# EAGLE library part KSZ9031RNX (library KSZ9031RNX)
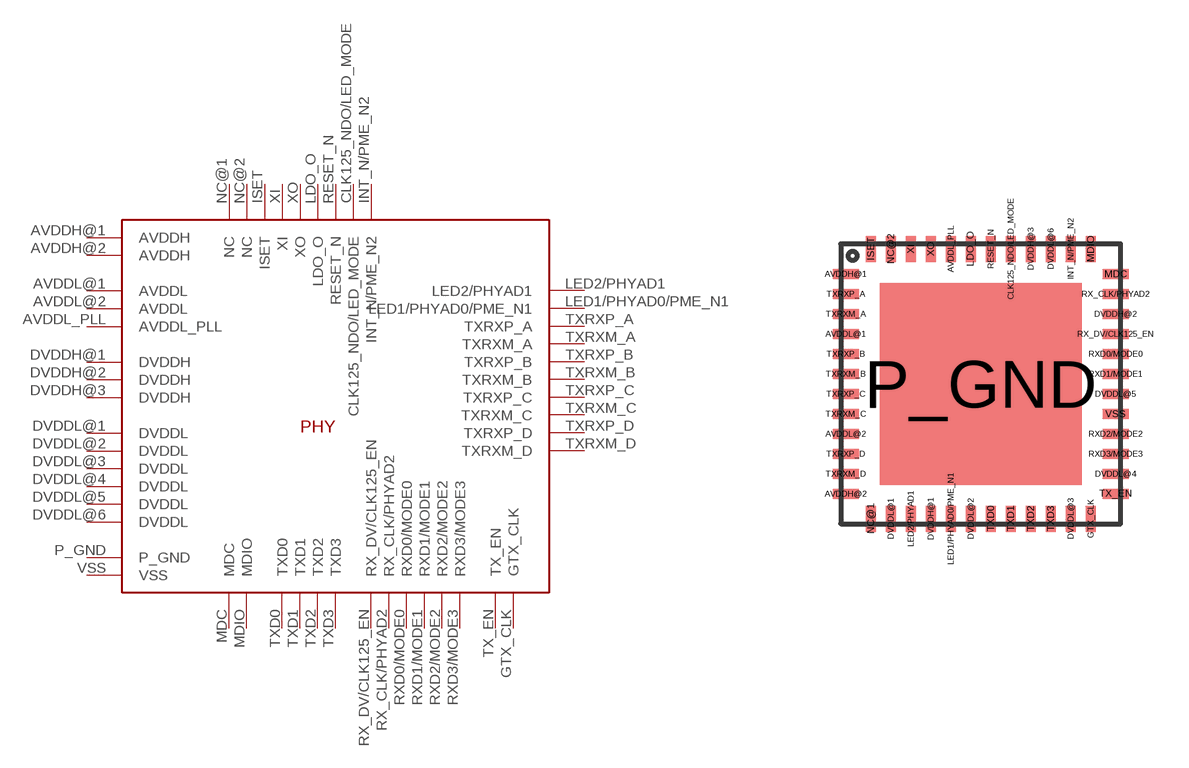
[diagram p0: symbol with the pads of KSZ9031RNX; footprint KSZ9031RNX]

Designator prefix PHY

## KSZ9031RNX  [KSZ9031RNX]
AVDDH@1  AVDDH
AVDDH@2  AVDDH
AVDDL@1  AVDDL
AVDDL@2  AVDDL
AVDDL_PLL  AVDDL_PLL
CLK125_NDO/LED_MODE  CLK125_NDO/LED_MODE
DVDDH@1  DVDDH
DVDDH@2  DVDDH
DVDDH@3  DVDDH
DVDDL@1  DVDDL
DVDDL@2  DVDDL
DVDDL@3  DVDDL
DVDDL@4  DVDDL
DVDDL@5  DVDDL
DVDDL@6  DVDDL
GTX_CLK  GTX_CLK
INT_N/PME_N2  INT_N/PME_N2
ISET  ISET
LDO_O  LDO_O
LED1/PHYAD0/PME_N1  LED1/PHYAD0/PME_N1
LED2/PHYAD1  LED2/PHYAD1
MDC  MDC
MDIO  MDIO
NC@1  NC
NC@2  NC
P_GND  P_GND
RESET_N  RESET_N
RX_CLK/PHYAD2  RX_CLK/PHYAD2
RX_DV/CLK125_EN  RX_DV/CLK125_EN
RXD0/MODE0  RXD0/MODE0
RXD1/MODE1  RXD1/MODE1
RXD2/MODE2  RXD2/MODE2
RXD3/MODE3  RXD3/MODE3
TX_EN  TX_EN
TXD0  TXD0
TXD1  TXD1
TXD2  TXD2
TXD3  TXD3
TXRXM_A  TXRXM_A
TXRXM_B  TXRXM_B
TXRXM_C  TXRXM_C
TXRXM_D  TXRXM_D
TXRXP_A  TXRXP_A
TXRXP_B  TXRXP_B
TXRXP_C  TXRXP_C
TXRXP_D  TXRXP_D
VSS  VSS
XI  XI
XO  XO

## Footprint KSZ9031RNX (pad centres in mm)
smd 0.65 x 0.25: AVDDH@1 -3.375,2.75; AVDDH@2 -3.375,-2.75; AVDDL@1 -3.375,1.25; AVDDL@2 -3.375,-1.25; DVDDH@2 3.375,1.75; DVDDL@4 3.375,-2.25; DVDDL@5 3.375,-0.25; MDC 3.375,2.75; RX_CLK/PHYAD2 3.375,2.25; RX_DV/CLK125_EN 3.375,1.25; RXD0/MODE0 3.375,0.75; RXD1/MODE1 3.375,0.25; RXD2/MODE2 3.375,-1.25; RXD3/MODE3 3.375,-1.75; TX_EN 3.375,-2.75; TXRXM_A -3.375,1.75; TXRXM_B -3.375,0.25; TXRXM_C -3.375,-0.75; TXRXM_D -3.375,-2.25; TXRXP_A -3.375,2.25; TXRXP_B -3.375,0.75; TXRXP_C -3.375,-0.25; TXRXP_D -3.375,-1.75; VSS 3.375,-0.75
smd 0.25 x 0.65: AVDDL_PLL -0.75,3.375; CLK125_NDO/LED_MODE 0.75,3.375; DVDDH@1 -1.25,-3.375; DVDDH@3 1.25,3.375; DVDDL@1 -2.25,-3.375; DVDDL@2 -0.25,-3.375; DVDDL@3 2.25,-3.375; DVDDL@6 1.75,3.375; GTX_CLK 2.75,-3.375; INT_N/PME_N2 2.25,3.375; ISET -2.75,3.375; LDO_O -0.25,3.375; LED1/PHYAD0/PME_N1 -0.75,-3.375; LED2/PHYAD1 -1.75,-3.375; MDIO 2.75,3.375; NC@1 -2.75,-3.375; NC@2 -2.25,3.375; RESET_N 0.25,3.375; TXD0 0.25,-3.375; TXD1 0.75,-3.375; TXD2 1.25,-3.375; TXD3 1.75,-3.375; XI -1.75,3.375; XO -1.25,3.375
smd 5.05 x 5.05: P_GND 0,0